# EAGLE library part IC-EMIF03-SIM02M8 (library nRF9160-IC)
3-line EMI filter and ESD protection for SIM card interfaces
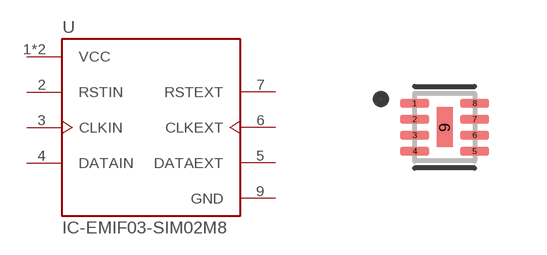
[diagram p2: symbol with the pads of SON40P170X150X60-9N; footprint SON40P170X150X60-9N]

Designator prefix U

## IC-EMIF03-SIM02M8 (DESC: RC (Pi) EMI Filter 2nd Order Low Pass 3 Channel R = 47Ohms, 100Ohms, C = 17pF 8-UFDFN Exposed Pad; DIGIKEYPN: 497-14751-1-ND; MF: STMicroelectronics; MPN: EMIF03-SIM02M8; PROD_ID: IC-15413)  [SON40P170X150X60-9N]
1  VCC  pwr
2  RSTIN  in
3  CLKIN  in
4  DATAIN  in
5  DATAEXT  out
6  CLKEXT  out
7  RSTEXT  out
8  VCC  pwr
9  GND  pwr

## Footprint SON40P170X150X60-9N (pad centres in mm)
smd 0.71 x 0.22: 1 -0.75,0.6; 2 -0.75,0.2; 3 -0.75,-0.2; 4 -0.75,-0.6; 5 0.75,-0.6; 6 0.75,-0.2; 7 0.75,0.2; 8 0.75,0.6
smd 0.4 x 1: 9 0,0